# Altium schematic symbol library InvertedF.SchLib: 1 symbol
Pins are listed as number, name and electrical type; pins without a type are passive.

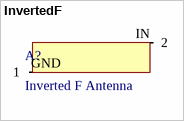
[diagram p0: symbol InvertedF]

## InvertedF
designator A?, comment Inverted F Antenna  (net tie, no BOM)
footprint InvertedF-FOOTPRINT
pins: GND 1, IN 2